# Altium schematic symbol library SCH - POWER - LINEAR VREG - TI TL5209_D_8.SchLib: 1 symbol
Pins are listed as number, name and electrical type; pins without a type are passive.

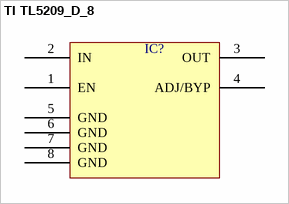
[diagram p0: symbol TI TL5209_D_8]

## TI TL5209_D_8
designator IC?  (value not drawn)
pins: 1 EN, 2 IN, 3 OUT, 4 ADJ/BYP, 5 GND, 6 GND, 7 GND, 8 GND